# Altium schematic symbol library Schlib1.SchLib: 6 symbols
Pins are listed as number, name and electrical type; pins without a type are passive.

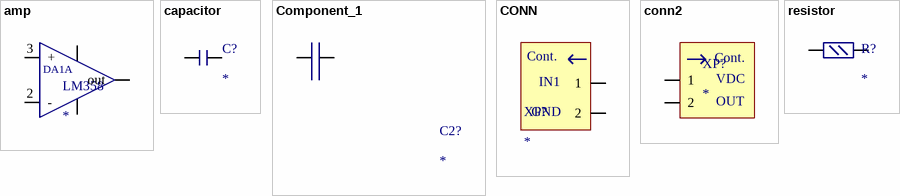
[diagram p0: symbols amp to resistor]

## amp
designator LM358
pins: 2 -, 3 +, 13 out, 14 (power), 15 (power)
text: DA1A

## capacitor
designator C?
pins: 9, 10

## Component_1
designator C2?
pins: 20, 21

## CONN
designator XP?
pins: 17 1, 18 2 (power)
text: Cont.; IN1; GND

## conn2
designator XP?
pins: 19 1 (power), 19 2
text: Cont.; VDC; OUT

## resistor
designator R?
pins: 7, 8